# EAGLE library part TPS6123X (library kitt.ic)
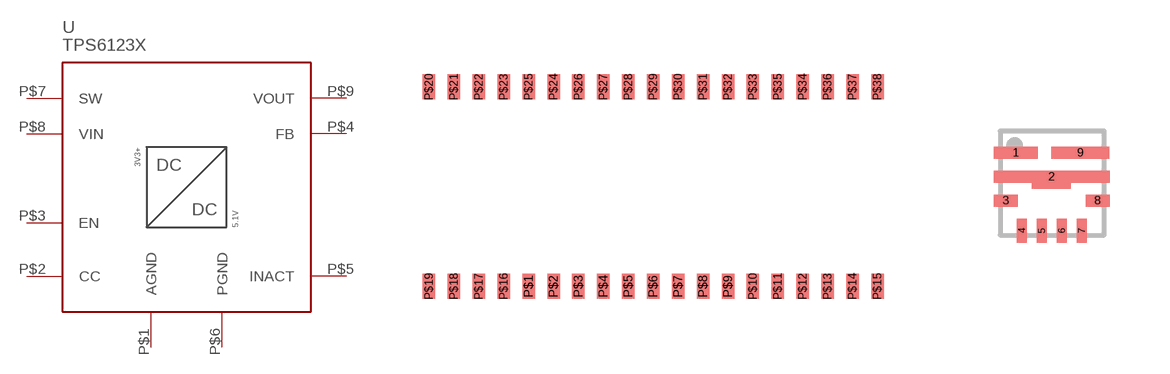
[diagram p9: symbol with the pads of TODO; footprints TODO, 9-VQFN-HR]

Designator prefix U

## TPS6123XPLACEHOLDER  [TODO]
P$1  AGND
P$2  CC
P$3  EN
P$4  FB
P$5  INACT
P$6  PGND
P$7  SW
P$8  VIN
P$9  VOUT

## TPS6123X5V (CC: XYX17)  [9-VQFN-HR]
1  PGND
2  SW
3  VIN
4  CC
5  AGND
6  FB
7  EN
8  INACT
9  VOUT

## Footprint TODO (pad centres in mm)
smd 0.635 x 1.27: P$1 -6.35,-5.08; P$2 -5.08,-5.08; P$3 -3.81,-5.08; P$4 -2.54,-5.08; P$5 -1.27,-5.08; P$6 0,-5.08; P$7 1.27,-5.08; P$8 2.54,-5.08; P$9 3.81,-5.08; P$10 5.08,-5.08; P$11 6.35,-5.08; P$12 7.62,-5.08; P$13 8.89,-5.08; P$14 10.16,-5.08; P$15 11.43,-5.08; P$16 -7.62,-5.08; P$17 -8.89,-5.08; P$18 -10.16,-5.08; P$19 -11.43,-5.08; P$20 -11.43,5.08; P$21 -10.16,5.08; P$22 -8.89,5.08; P$23 -7.62,5.08; P$24 -5.08,5.08; P$25 -6.35,5.08; P$26 -3.81,5.08; P$27 -2.54,5.08; P$28 -1.27,5.08; P$29 0,5.08; P$30 1.27,5.08; P$31 2.54,5.08; P$32 3.81,5.08; P$33 5.08,5.08; P$34 7.62,5.08; P$35 6.35,5.08; P$36 8.89,5.08; P$37 10.16,5.08; P$38 11.43,5.08

## Footprint 9-VQFN-HR (pad centres in mm)
smd 1.1 x 0.3: 1 -0.895,0.77
smd 2.9 x 0.3: 2 0,0.17
smd 0.6 x 0.3: 3 -1.15,-0.425; 8 1.15,-0.425
smd 0.25 x 0.6: 4 -0.75,-1.175; 5 -0.25,-1.175; 6 0.25,-1.175; 7 0.75,-1.175
smd 1.45 x 0.3: 9 0.72,0.77